# EAGLE library part RIA182-07 (library con-ria182)
Gewinkelter Wannenstecker 7-polig Rastermaß: 3,5mm Lötstift / Steckerstift: 1x1mm Bohrung: 1,5mm Bemessungsstrom: 5A Nennquerschnitt Stecker: 1,5qmm eindrähtig / 1qmm feinstdrähtig
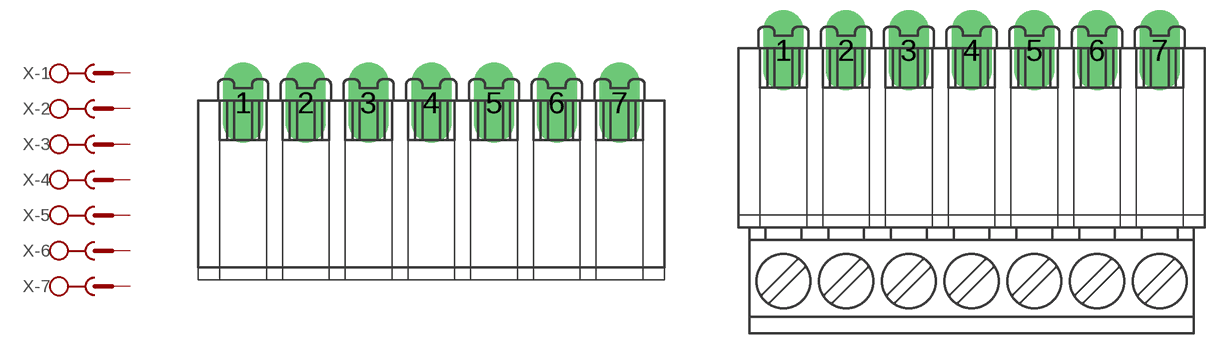
[diagram p1: symbol with the pads of RIA182-07; footprints RIA182-07, RIA182-169-07]

Designator prefix X; gates -1=SK -2=SK -3=SK -4=SK -5=SK -6=SK -7=SK

## RIA182-07  [RIA182-07]
1  -1:SK  pas
2  -2:SK  pas
3  -3:SK  pas
4  -4:SK  pas
5  -5:SK  pas
6  -6:SK  pas
7  -7:SK  pas

## RIA182-07-169  [RIA182-169-07]
Pads as for RIA182-07

## Footprint RIA182-07 (pad centres in mm)
drill 1.5 long: 1 -10.5,0; 2 -7,0; 3 -3.5,0; 4 0,0; 5 3.5,0; 6 7,0; 7 10.5,0

## Footprint RIA182-169-07 (pad centres in mm)
mit Stecker RIA 169
drill 1.5 long: 1 -10.5,0; 2 -7,0; 3 -3.5,0; 4 0,0; 5 3.5,0; 6 7,0; 7 10.5,0